# EAGLE library part 61300611121 (library EagleLibrary_Wuerth_Elektronik_eiCan_Board_to_Board_Connectors_v6_20150113)
WR-PHD 2.54mm Pin Header, 6 Pin =>Code : Con_BTB_PHD_2.54_1_THT_61300611121 <http://katalog.we-online.de/media/images/eican/Con_BTB_PHD_2.54_1_THT_6130xx11121_pf2.jpg> Details see: http://katalog.we-online.de/en/em/613_0xx_111_21 Created 2014-05-29, Karrer Zheng 2014 (C) Würth Elektronik
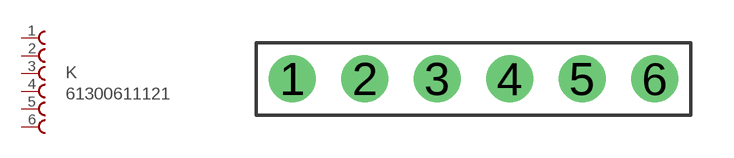
[diagram p0: symbol with the pads of 61300611121; footprint 61300611121]

Designator prefix K

## 61300611121  [61300611121]
1  1  pas
2  2  pas
3  3  pas
4  4  pas
5  5  pas
6  6  pas

## Footprint 61300611121 (pad centres in mm)
WR-PHD 2.54mm Pin Header, 6 Pin
drill 1.1: 1 -6.35,0; 2 -3.81,0; 3 -1.27,0; 4 1.27,0; 5 3.81,0; 6 6.35,0